# EAGLE library part TXS0102 (library Placa_Arduino_Compatible)
2-Bit Bi-Directional Level Shifter (I2C, etc.) Designed for I2C devices and has internal pullups. Not to be confused with TXB010x series. 1.2V-3.6V (VCCA) to 1.65V-5.5V (VCCB) bi-directional level shifter with auto direction sensing. Max data rate - 24Mbps (Push Pull), 2Mbps (Open Drain) Digikey: 296-21931-1-ND
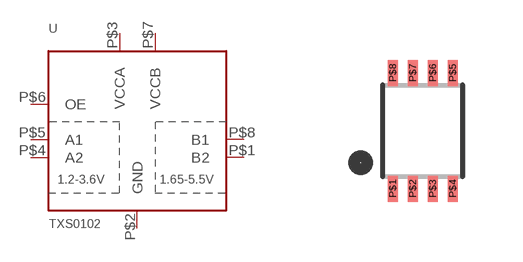
[diagram p78: symbol with the pads of VFSOP-8; footprint VFSOP-8]

Designator prefix U

## TXS0102  [VFSOP-8]
P$1  B2
P$2  GND
P$3  VCCA
P$4  A2
P$5  A1
P$6  OE
P$7  VCCB
P$8  B1

## Footprint VFSOP-8 (pad centres in mm)
VFSOP8 - 0.5mm pitch, 2.0x2.3mm Source: http://focus.ti.com/lit/ds/symlink/txs0102.pdf
smd 0.25 x 0.65: P$1 -0.75,-1.45; P$2 -0.25,-1.45; P$3 0.25,-1.45; P$4 0.75,-1.45; P$5 0.75,1.45; P$6 0.25,1.45; P$7 -0.25,1.45; P$8 -0.75,1.45